# Altium footprint library C_0603.PcbLib: 1 footprints
Each footprint in its own frame and in the unit in brackets; x right, y up, seen from the top. Pads: shape width x height; smd on the part's side, far side on the other; paste and mask are expansions set on the pad; w line width, h text height; cw(c..) or ccw(c..) is an arc to the next point about the centre after c.
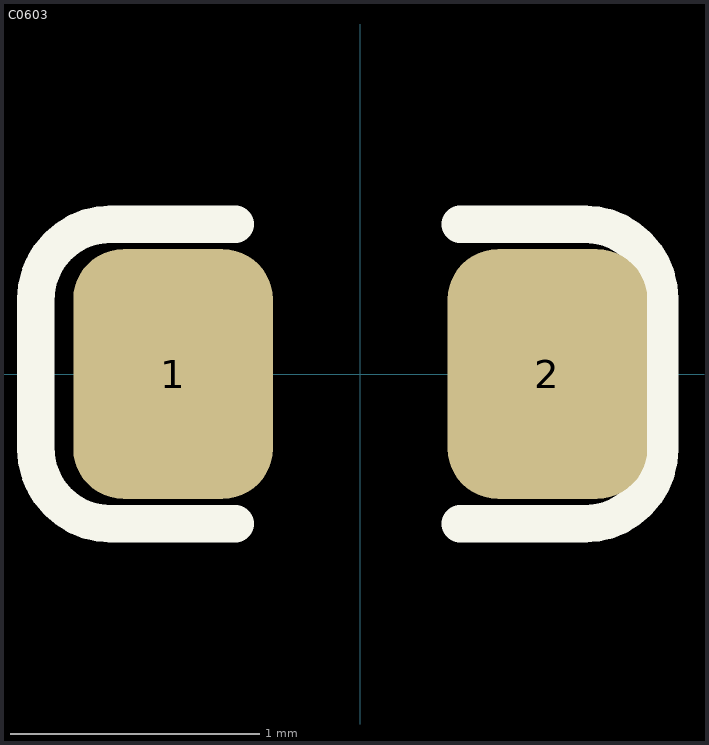
[diagram p0: the footprint, top view; thin cyan lines are the x and y axes]

## C0603 [mm]
pads (2):
  rrect50% 0.8x1 smd: 1(-0.75,0) 2(0.75,0)
Top Overlay:
  lines w0.15: -0.5,-0.6 -1,-0.6 cw(c-1,-0.3) -1.3,-0.3 -1.3,0.3 cw(c-1,0.3) -1,0.6 -0.5,0.6 ; 0.4,-0.6 0.9,-0.6 ccw(c0.9,-0.3) 1.2,-0.3 1.2,0.3 ccw(c0.9,0.3) 0.9,0.6 0.4,0.6
3D body "CAP0603.stp": height 0.3, standoff 0, extent -0.8,-0.4 0.8,0.4